# Altium schematic symbol library conn-5x2_0.Schlib: 1 symbol
Pins are listed as number, name and electrical type; pins without a type are passive.

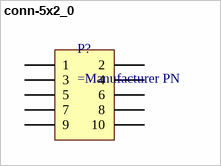
[diagram p0: symbol conn-5x2_0]

## conn-5x2_0
designator P?
Connector, 5x2
pins: 1, 2, 3, 4, 5, 6, 7, 8, 9, 10